# EAGLE library part AD7879W (library di_ic)
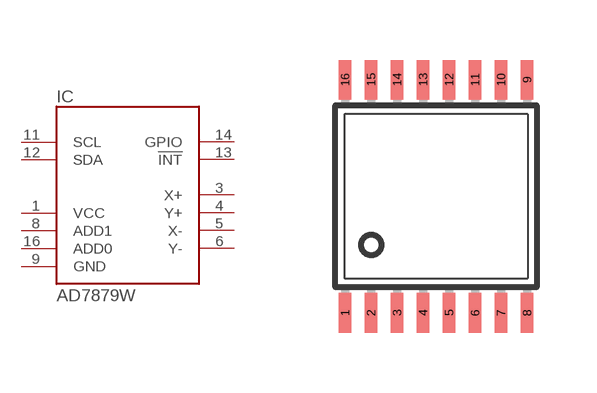
[diagram p66: symbol with the pads of TSSOP16; footprint TSSOP16]

Designator prefix IC

## AD7879W  [TSSOP16]
1  VCC
3  X+
4  Y+
5  X-
6  Y-
8  ADD1
9  GND
11  SCL
12  SDA
13  !INT
14  GPIO
16  ADD0

## Footprint TSSOP16 (pad centres in mm)
smd 0.305 x 0.991: 1 -2.275,-2.918; 2 -1.625,-2.918; 3 -0.975,-2.918; 4 -0.325,-2.918; 5 0.325,-2.918; 6 0.975,-2.918; 7 1.625,-2.918; 8 2.275,-2.918; 9 2.275,2.918; 10 1.625,2.918; 11 0.975,2.918; 12 0.325,2.918; 13 -0.325,2.918; 14 -0.975,2.918; 15 -1.625,2.918; 16 -2.275,2.918